# Altium footprint library my.PcbLib: 38 footprints (part 1 of 3)
Each footprint in its own frame and in the unit in brackets; x right, y up, seen from the top. Pads: shape width x height; smd on the part's side, far side on the other; paste and mask are expansions set on the pad; w line width, h text height; cw(c..) or ccw(c..) is an arc to the next point about the centre after c.
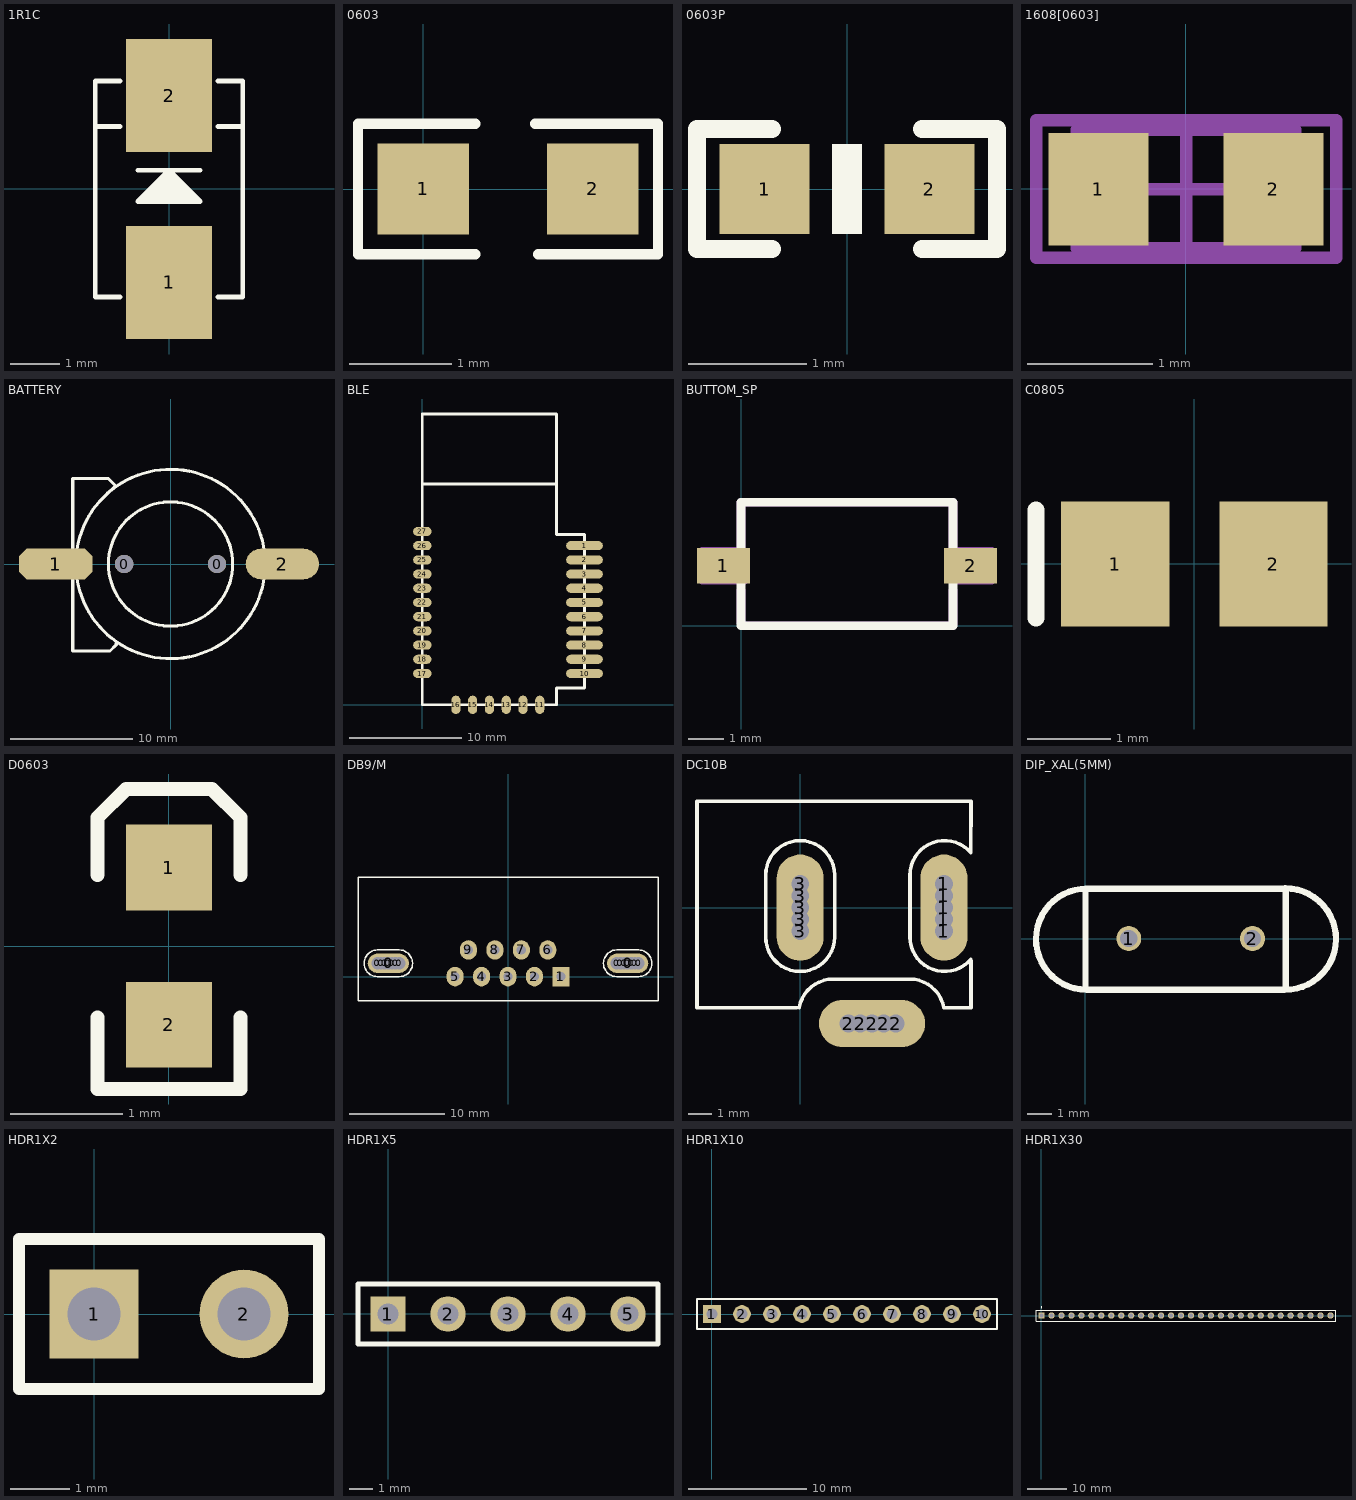
[diagram p0: the footprints below, top view; thin cyan lines are the x and y axes]

## 1R1C [mm]
pads (2):
  rect 1.75x2.3 smd: 1(0,-1.9) 2(0,1.9)
Top Overlay:
  lines w0.1: -1.5,1.27 -1,1.27 ; -1,-2.2 -1.5,-2.2 -1.5,2.2 -1,2.2 ; -0.635,0.381 0.635,0.381 ; -0.564,-0.183 0.477,-0.183 0.477,-0.096 -0.477,-0.096 ; -0.43,-0.049 0.43,-0.049 ; -0.37,0.011 0.37,0.011 ; -0.294,0.087 0.294,0.087 ; -0.213,0.168 0.213,0.168 ; -0.188,0.193 0.188,0.193 ; -0.025,0.087 -0.025,0.381 ; 0.051,-0.071 0.051,0.381 ; 1,-2.2 1.5,-2.2 1.5,2.2 1,2.2 ; 1,1.27 1.5,1.27 ; -0.635,-0.254 0,0.381 0.635,-0.254 -0.635,-0.254

## 0603 [mil]
pads (2):
  rect 35x35 smd: 1(0,0) 2(65,0)
Top Overlay:
  lines w4: 20,-25 -25,-25 -25,25 20,25 ; 43,25 90,25 90,-25 44,-25

## 0603P [mil]
pads (2):
  rect 30x30 smd: 1(-27.5,0) 2(27.5,0)
Top Overlay:
  region: 4.97,-15 4.97,15 -5.03,15 -5.03,-15
  lines w6: -25,-20 -50,-20 -50,20 -25,20 ; 25,-20 50,-20 50,20 25,20

## 1608[0603] [mm] "Chip Capacitor, Body 1.6x0.8mm, IPC High Density"
height 1.3
pads (2):
  rect 0.8x0.9 smd: 1(-0.7,0) 2(0.7,0)
Mechanical 13:
  lines w0.1: -0.875,-0.475 0.875,-0.475 0.875,0.475 -0.875,0.475 -0.875,-0.475
Mechanical 15:
  lines w0.1: -0.475,0 0.475,0 ; 0,-0.475 0,0.475 ; -1.2,-0.55 1.2,-0.55 1.2,0.55 -1.2,0.55 -1.2,-0.55
3D body: height 1.3, standoff 0, extent -0.875,-0.475 0.875,0.475

## BATTERY [mm] "Package for Li Battery"
pads (4):
  oval 1.504x1.509 hole 1.499: 0(-3.8,0) 0(3.8,0)
  oct 6x2.5 smd: 1(-9.398,0)
  oval 6x2.5 smd: 2(9.144,0)
Top Overlay:
  circle w0.254: c0,0 r5.082
  circle w0.254: c0,0 r7.747
  lines w0.254: -5.842,5.08 -4.508,6.413 -5.08,6.985 -8.001,6.985 -8.001,-7.112 -4.953,-7.112 -4.445,-6.604 -4.445,-6.477

## BLE [mm]
pads (27):
  rrect100% 3.28x0.82 smd: 1(14.5,14.23) 2(14.5,12.96) 3(14.5,11.69) 4(14.5,10.42) 5(14.5,9.15) 6(14.5,7.88) 7(14.5,6.61) 8(14.5,5.34) 9(14.5,4.07) 10(14.5,2.8)
  rrect100% 0.82x1.64 smd: 11(10.5,0) 12(9,0) 13(7.5,0) 14(6,0) 15(4.5,0) 16(3,0)
  rrect100% 1.64x0.82 smd: 17(0,2.8) 18(0,4.07) 19(0,5.34) 20(0,6.61) 21(0,7.88) 22(0,9.15) 23(0,10.42) 24(0,11.69) 25(0,12.96) 26(0,14.23) 27(0,15.5)
Top Overlay:
  lines w0.254: 0,19.73 12,19.73 ; 0,0 0,26 12,26 12,15.23 14.5,15.23 14.5,1.5 12,1.5 12,0 0,0

## BUTTOM_SP [mm]
pads (2):
  rect 1.5x1 smd: 1(-0.5,1.7) 2(6.5,1.7)
Top Overlay:
  lines w0.254: 0,0 6,0 6,3.5 0,3.5 0,0
Mechanical 1:
  lines w0.254: 0,1 0,0.1 0.1,0 6,0 6,1 ; 0.1,1.3 -1.1,1.3 -1.1,2.1 0,2.1 0,3.5 6,3.5 6,2.1 ; 6,1.3 7.1,1.3 7.1,2.1 6,2.1 ; 6.1,2 6,2.1

## C0805 [mm] "Chip Capacitor; Body 2.0 x 1.2 mm (LxW typ)"
height 1.1
pads (2):
  rect 1.3x1.5 smd: 1(-0.95,0) 2(0.95,0)
Top Overlay:
  lines w0.2: -1.9,-0.65 -1.9,0.65

## D0603 [mil]
pads (2):
  rect 30x30 smd: 1(0,27.5) 2(0,-27.5)
Top Overlay:
  lines w5: -25,-25 -25,-50 25,-50 25,-25 ; -25,25 -25,45 -15,55 15,55 25,45 25,25

## DB9/M [mil]
pads (25):
  round 50 hole 50: 0(-538,55) 0(-523,55) 0(-508,55) 0(-493,55) 0(-478,55) 0(-463,55) 0(-448,55) 0(448,55) 0(463,55) 0(478,55) 0(493,55) 0(508,55) 0(523,55) 0(538,55)
  oval 170x80 hole 50: 0(-493,55) 0(493,55)
  rect 70x80 hole 38: 1(218,0)
  oval 70x80 hole 38: 2(109,0) 3(0,0) 4(-109,0) 5(-218,0) 6(164,110) 7(55,110) 8(-54,110) 9(-163,110)
Top Overlay:
  lines w6: -618,-100 618,-100 618,410 -618,410 -618,-100 ; -538,0 cw(c-538,55) -538,110 -448,110 cw(c-448,55) -448,0 -538,0 ; 448,0 cw(c448,55) 448,110 538,110 cw(c538,55) 538,0 448,0

## DC10B [mil]
pads (15):
  round 45 hole 30: 1(244.09,-40) 1(244.09,-20) 1(244.09,20) 1(244.09,40) 2(82.05,-196.85) 2(102.05,-196.85) 2(142.05,-196.85) 2(162.05,-196.85) 3(0,-40) 3(0,-20) 3(0,20) 3(0,40)
  oval 80x180 hole 30: 1(244.1,0) 3(0,0)
  oval 180x80 hole 30: 2(122.05,-196.85)
Top Overlay:
  lines w6: -6,-170 -175,-170 -175,180 290,180 289.83,92.62 ccw(c245,55) 186.48,55 186.48,-50 ccw(c245,-50) 289.83,-87.62 ; -1.63,-169.84 cw(c56,-180) 56,-121.48 186,-121.48 cw(c186,-180) 243.63,-169.84 ; 245,-170 290,-170 290,-90 ; -58.52,55 cw(c0,55) 58.52,55 58.52,-50 cw(c0,-50) -58.52,-50 -58.52,55 ; -58.52,55 -58.52,55

## DIP_XAL(5MM) [mm]
pads (2):
  oval 1.004x1.009 hole 0.7: 1(1.75,0) 2(6.75,0)
Top Overlay:
  lines w0.254: 0,-2.019 0,2.019 ; 8.07,2.034 cw(c8.075,-0.018) 8.044,-2.069 0.05,-2.069 cw(c0.044,-0.025) 0.064,2.019 8.089,2.019 8.089,-2.023

## HDR1X2 [mm] "Connector; Header; 2 Position"
pads (2):
  rect 1.5x1.5 hole 0.9: 1(0,0)
  round 1.5 hole 0.9: 2(2.54,0)
Top Overlay:
  lines w0.2: -1.27,-1.27 -1.27,1.27 3.81,1.27 3.81,-1.27 -1.27,-1.27

## HDR1X5 [mm] "Connector; Header; 5 Position"
pads (5):
  rect 1.5x1.5 hole 0.9: 1(0,0)
  round 1.5 hole 0.9: 2(2.54,0) 3(5.08,0) 4(7.62,0) 5(10.16,0)
Top Overlay:
  lines w0.2: -1.27,-1.27 11.43,-1.27 11.43,1.27 -1.27,1.27 -1.27,-1.27

## HDR1X10 [mm] "Connector; Header; 10 Position"
pads (10):
  rect 1.5x1.5 hole 0.9: 1(0,0)
  round 1.5 hole 0.9: 2(2.54,0) 3(5.08,0) 4(7.62,0) 5(10.16,0) 6(12.7,0) 7(15.24,0) 8(17.78,0) 9(20.32,0) 10(22.86,0)
Top Overlay:
  lines w0.2: -1.27,-1.27 -1.27,1.27 0.635,1.27 24.13,1.27 24.13,-1.27 -1.27,-1.27

## HDR1X30 [mm] "Connector; Header; 30 Position"
pads (30):
  rect 1.6x1.6 hole 0.99: 1(0,0)
  round 1.6 hole 0.99: 2(2.54,0) 3(5.08,0) 4(7.62,0) 5(10.16,0) 6(12.7,0) 7(15.24,0) 8(17.78,0) 9(20.32,0) 10(22.86,0) 11(25.4,0) 12(27.94,0) 13(30.48,0) 14(33.02,0) 15(35.56,0) 16(38.1,0) 17(40.64,0) 18(43.18,0) 19(45.72,0) 20(48.26,0) 21(50.8,0) 22(53.34,0) 23(55.88,0) 24(58.42,0) 25(60.96,0) 26(63.5,0) 27(66.04,0) 28(68.58,0) 29(71.12,0) 30(73.66,0)
Top Overlay:
  circle w0.25: c0,2.05 r0.125
  lines w0.2: -1.4,-1.4 -1.4,1.4 75.06,1.4 75.06,-1.4 -1.4,-1.4